# Altium footprint library CapPol_Tant_T520B227M006ATE045.PcbLib: 1 footprints
Each footprint in its own frame and in the unit in brackets; x right, y up, seen from the top. Pads: shape width x height; smd on the part's side, far side on the other; paste and mask are expansions set on the pad; w line width, h text height; cw(c..) or ccw(c..) is an arc to the next point about the centre after c.
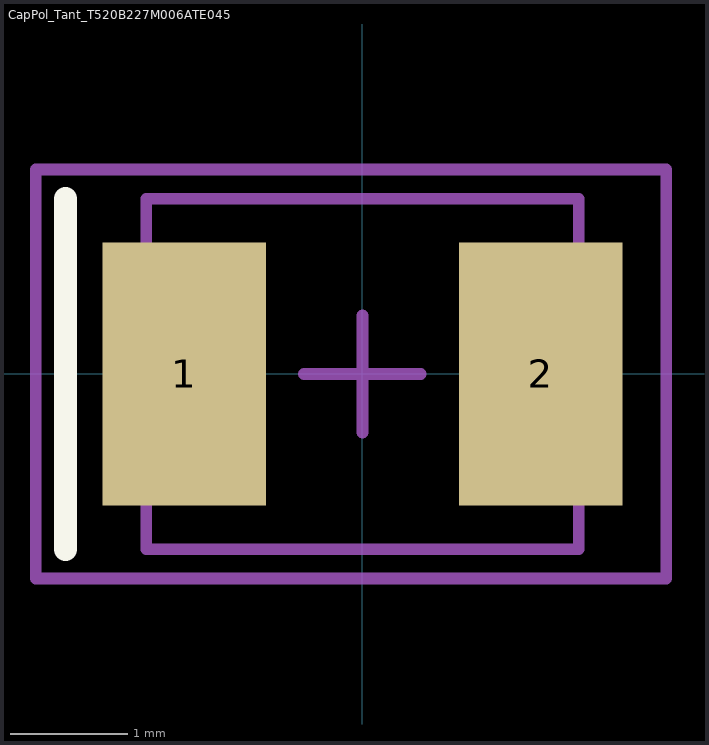
[diagram p0: the footprint, top view; thin cyan lines are the x and y axes]

## CapPol_Tant_T520B227M006ATE045 [mm]
height 2.1
pads (2):
  rect 1.4x2.25 smd: 1(-1.525,0) 2(1.525,0)
Top Overlay:
  lines w0.2: -2.54,-1.5 -2.54,1.5
Mechanical 13:
  lines w0.1: -1.85,-1.5 -1.85,1.5 1.85,1.5 1.85,-1.5 -1.85,-1.5
Mechanical 15:
  lines w0.1: -0.5,0 0.5,0 ; 0,-0.5 0,0.5 ; -2.794,-1.75 -2.794,1.75 2.6,1.75 2.6,-1.75 -2.794,-1.75
3D body: height 2.1, standoff 0, extent -1.85,-1.5 1.85,1.5